# Altium footprint library mva_General.PcbLib: 34 footprints (part 1 of 3)
Each footprint in its own frame and in the unit in brackets; x right, y up, seen from the top. Pads: shape width x height; smd on the part's side, far side on the other; paste and mask are expansions set on the pad; w line width, h text height; cw(c..) or ccw(c..) is an arc to the next point about the centre after c.
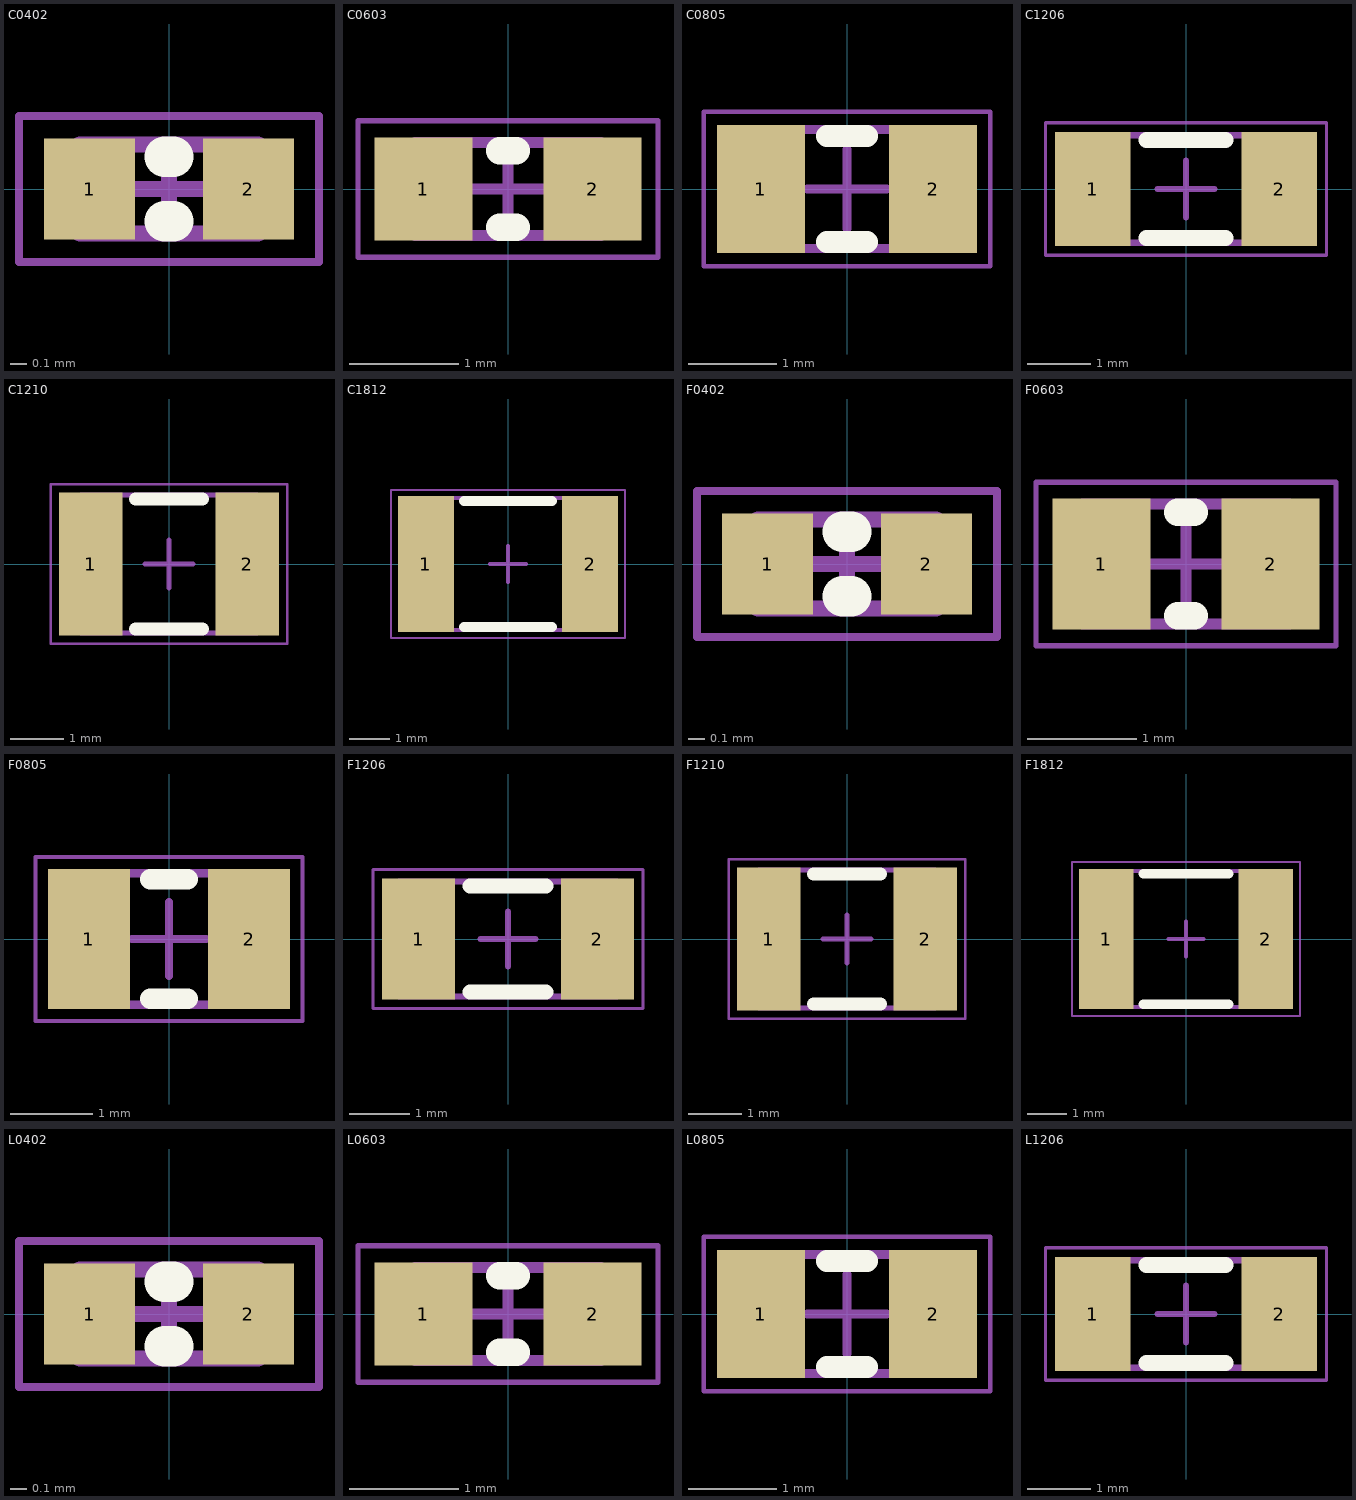
[diagram p0: the footprints below, top view; thin cyan lines are the x and y axes]

## C0402 [mm] "Capacitor SMD 0402."
height 0.9
pads (2):
  rect 0.56x0.62 smd: 1(-0.49,0) 2(0.49,0)
Top Overlay:
  lines w0.25: -0.025,-0.2 0.025,-0.2 ; -0.025,0.2 0.025,0.2
Mechanical 13:
  lines w0.1: -0.55,-0.275 -0.55,0.275 0.55,0.275 0.55,-0.275 -0.55,-0.275
Mechanical 15:
  lines w0.05: -0.925,-0.45 0.925,-0.45 0.925,0.45 -0.925,0.45 -0.925,-0.45
  lines w0.1: -0.225,0 0.225,0 ; 0,-0.2 0,0.2
3D body "C0402_045.step": height 0.45, standoff 0, extent -0.5,-0.25 0.5,0.25

## C0603 [mm] "Capacitor SMD 0603."
height 0.9
pads (2):
  rect 0.9x0.94 smd: 1(-0.775,0) 2(0.775,0)
Top Overlay:
  lines w0.25: -0.075,-0.35 0.075,-0.35 ; -0.075,0.35 0.075,0.35
Mechanical 13:
  lines w0.1: -0.85,-0.425 0.85,-0.425 0.85,0.425 -0.85,0.425 -0.85,-0.425
Mechanical 15:
  lines w0.05: -1.375,-0.625 1.375,-0.625 1.375,0.625 -1.375,0.625 -1.375,-0.625
  lines w0.1: -0.325,0 0.325,0 ; 0,-0.35 0,0.35
3D body "C0603_070.step": height 0.7, standoff 0, extent -0.8,-0.4 0.8,0.4

## C0805 [mm] "Capacitor SMD 0805."
height 0.9
pads (2):
  rect 1x1.45 smd: 1(-0.975,0) 2(0.975,0)
Top Overlay:
  lines w0.25: -0.225,-0.6 0.225,-0.6 ; -0.225,0.6 0.225,0.6
Mechanical 13:
  lines w0.1: -1.05,-0.675 -1.05,0.675 1.05,0.675 1.05,-0.675 -1.05,-0.675
Mechanical 15:
  lines w0.05: -1.625,-0.875 -1.625,0.875 1.625,0.875 1.625,-0.875 -1.625,-0.875
  lines w0.1: -0.45,0 0.45,0 ; 0,-0.45 0,0.45
3D body "C0805_085.step": height 0.85, standoff 0, extent -1,-0.625 1,0.625

## C1206 [mm] "Capacitor SMD 1206."
height 0.9
pads (2):
  rect 1.2x1.8 smd: 1(-1.475,0) 2(1.475,0)
Top Overlay:
  lines w0.25: -0.625,-0.775 0.625,-0.775 ; -0.625,0.775 0.625,0.775
Mechanical 13:
  lines w0.1: -1.65,-0.85 -1.65,0.85 1.65,0.85 1.65,-0.85 -1.65,-0.85
Mechanical 15:
  lines w0.05: -2.225,-1.05 2.225,-1.05 2.225,1.05 -2.225,1.05 -2.225,-1.05
  lines w0.1: -0.45,0 0.45,0 ; 0,-0.45 0,0.45
3D body "C1206_145.step": height 1.45, standoff 0, extent -1.6,-0.8 1.6,0.8

## C1210 [mm] "Capacitor SMD 1210."
height 0.9
pads (2):
  rect 1.2x2.7 smd: 1(-1.475,0) 2(1.475,0)
Top Overlay:
  lines w0.25: -0.625,-1.225 0.625,-1.225 ; -0.625,1.225 0.625,1.225
Mechanical 13:
  lines w0.1: -1.65,-1.3 -1.65,1.3 1.65,1.3 1.65,-1.3 -1.65,-1.3
Mechanical 15:
  lines w0.05: -2.225,-1.5 2.225,-1.5 2.225,1.5 -2.225,1.5 -2.225,-1.5
  lines w0.1: -0.45,0 0.45,0 ; 0,-0.45 0,0.45
3D body "C1210_210.step": height 2.1, standoff 0, extent -1.6,-1.25 1.6,1.25

## C1812 [mm] "Capacitor SMD 1812."
height 0.9
pads (2):
  rect 1.4x3.4 smd: 1(-2.05,0) 2(2.05,0)
Top Overlay:
  lines w0.25: -1.1,-1.575 1.1,-1.575 ; -1.1,1.575 1.1,1.575
Mechanical 13:
  lines w0.1: -2.3,-1.65 2.3,-1.65 2.3,1.65 -2.3,1.65 -2.3,-1.65
Mechanical 15:
  lines w0.05: -2.925,-1.85 -2.925,1.85 2.925,1.85 2.925,-1.85 -2.925,-1.85
  lines w0.1: -0.45,0 0.45,0 ; 0,-0.45 0,0.45
3D body "C1812.stp": height 2.62, standoff 0.02, extent -2.25,-1.6 2.25,1.6

## F0402 [mm] "Fuse SMD 0402."
height 0.9
pads (2):
  rect 0.56x0.62 smd: 1(-0.49,0) 2(0.49,0)
Top Overlay:
  lines w0.25: -0.025,-0.2 0.025,-0.2 ; -0.025,0.2 0.025,0.2
Mechanical 13:
  lines w0.1: -0.55,-0.275 -0.55,0.275 0.55,0.275 0.55,-0.275 -0.55,-0.275
Mechanical 15:
  lines w0.05: -0.925,-0.45 0.925,-0.45 0.925,0.45 -0.925,0.45 -0.925,-0.45
  lines w0.1: -0.225,0 0.225,0 ; 0,-0.2 0,0.2
3D body "R_0402_1005Metric.step": height 0.35, standoff 0, extent -0.5,-0.25 0.5,0.25

## F0603 [mm] "Fuse SMD 0603."
height 0.9
pads (2):
  rect 0.9x1.2 smd: 1(-0.775,0) 2(0.775,0)
Top Overlay:
  lines w0.25: -0.075,-0.475 0.075,-0.475 ; -0.075,0.475 0.075,0.475
Mechanical 13:
  lines w0.1: -0.95,-0.55 -0.95,0.55 0.95,0.55 0.95,-0.55 -0.95,-0.55
Mechanical 15:
  lines w0.05: -1.375,-0.75 -1.375,0.75 1.375,0.75 1.375,-0.75 -1.375,-0.75
  lines w0.1: -0.325,0 0.325,0 ; 0,-0.35 0,0.35
3D body "F0603.step": height 0.45, standoff 0, extent -0.9,-0.52 0.9,0.52

## F0805 [mm] "Fuse SMD 0805."
height 0.9
pads (2):
  rect 1x1.7 smd: 1(-0.975,0) 2(0.975,0)
Top Overlay:
  lines w0.25: -0.225,-0.725 0.225,-0.725 ; -0.225,0.725 0.225,0.725
Mechanical 13:
  lines w0.1: -1.15,-0.8 -1.15,0.8 1.15,0.8 1.15,-0.8 -1.15,-0.8
Mechanical 15:
  lines w0.05: -1.625,-1 -1.625,1 1.625,1 1.625,-1 -1.625,-1
  lines w0.1: -0.45,0 0.45,0 ; 0,-0.45 0,0.45
3D body "F0805.step": height 0.5, standoff 0, extent -1.1,-0.77 1.1,0.77

## F1206 [mm] "Fuse SMD 1206."
height 0.9
pads (2):
  rect 1.2x2 smd: 1(-1.475,0) 2(1.475,0)
Top Overlay:
  lines w0.25: -0.625,-0.875 0.625,-0.875 ; -0.625,0.875 0.625,0.875
Mechanical 13:
  lines w0.1: -1.8,-0.95 -1.8,0.95 1.8,0.95 1.8,-0.95 -1.8,-0.95
Mechanical 15:
  lines w0.05: -2.225,-1.15 2.225,-1.15 2.225,1.15 -2.225,1.15 -2.225,-1.15
  lines w0.1: -0.45,0 0.45,0 ; 0,-0.45 0,0.45
3D body "F1206.step": height 0.5, standoff 0, extent -1.75,-0.92 1.75,0.92

## F1210 [mm] "Fuse SMD 1210."
height 0.9
pads (2):
  rect 1.2x2.7 smd: 1(-1.475,0) 2(1.475,0)
Top Overlay:
  lines w0.25: -0.625,-1.225 0.625,-1.225 ; -0.625,1.225 0.625,1.225
Mechanical 13:
  lines w0.1: -1.65,-1.3 1.65,-1.3 1.65,1.3 -1.65,1.3 -1.65,-1.3
Mechanical 15:
  lines w0.05: -2.225,-1.5 -2.225,1.5 2.225,1.5 2.225,-1.5 -2.225,-1.5
  lines w0.1: -0.45,0 0.45,0 ; 0,-0.45 0,0.45
3D body "F1206.step": height 0.5, standoff 0, extent -1.75,-0.92 1.75,0.92

## F1812 [mm] "Fuse SMD 1812."
height 0.9
pads (2):
  rect 1.4x3.6 smd: 1(-2.05,0) 2(2.05,0)
Top Overlay:
  lines w0.25: -1.1,-1.675 1.1,-1.675 ; -1.1,1.675 1.1,1.675
Mechanical 13:
  lines w0.1: -2.4,-1.75 -2.4,1.75 2.4,1.75 2.4,-1.75 -2.4,-1.75
Mechanical 15:
  lines w0.05: -2.925,-1.975 2.925,-1.975 2.925,1.975 -2.925,1.975 -2.925,-1.975
  lines w0.1: -0.45,0 0.45,0 ; 0,-0.45 0,0.45
3D body "F1812.step": height 1.11, standoff 0, extent -2.35,-1.7 2.35,1.7

## L0402 [mm] "Inductor SMD 0402."
height 0.9
pads (2):
  rect 0.56x0.62 smd: 1(-0.49,0) 2(0.49,0)
Top Overlay:
  lines w0.25: -0.025,-0.2 0.025,-0.2 ; -0.025,0.2 0.025,0.2
Mechanical 13:
  lines w0.1: -0.55,-0.275 -0.55,0.275 0.55,0.275 0.55,-0.275 -0.55,-0.275
Mechanical 15:
  lines w0.05: -0.925,-0.45 0.925,-0.45 0.925,0.45 -0.925,0.45 -0.925,-0.45
  lines w0.1: -0.225,0 0.225,0 ; 0,-0.2 0,0.2
3D body "L0402.stp": height 0.52, standoff 0.01, extent -0.508,-0.254 0.508,0.254

## L0603 [mm] "Inductor SMD 0603."
height 0.9
pads (2):
  rect 0.9x0.94 smd: 1(-0.775,0) 2(0.775,0)
Top Overlay:
  lines w0.25: -0.075,-0.35 0.075,-0.35 ; -0.075,0.35 0.075,0.35
Mechanical 13:
  lines w0.1: -0.85,-0.425 0.85,-0.425 0.85,0.425 -0.85,0.425 -0.85,-0.425
Mechanical 15:
  lines w0.05: -1.375,-0.625 1.375,-0.625 1.375,0.625 -1.375,0.625 -1.375,-0.625
  lines w0.1: -0.325,0 0.325,0 ; 0,-0.35 0,0.35
3D body "L0603.stp": height 0.81, standoff 0.01, extent -0.8,-0.4 0.8,0.4

## L0805 [mm] "Inductor SMD 0805."
height 0.9
pads (2):
  rect 1x1.45 smd: 1(-0.975,0) 2(0.975,0)
Top Overlay:
  lines w0.25: -0.225,-0.6 0.225,-0.6 ; -0.225,0.6 0.225,0.6
Mechanical 13:
  lines w0.1: -1.05,-0.675 -1.05,0.675 1.05,0.675 1.05,-0.675 -1.05,-0.675
Mechanical 15:
  lines w0.05: -1.625,-0.875 -1.625,0.875 1.625,0.875 1.625,-0.875 -1.625,-0.875
  lines w0.1: -0.45,0 0.45,0 ; 0,-0.45 0,0.45
3D body "L0805.stp": height 0.61, standoff 0.01, extent -1,-0.625 1,0.625

## L1206 [mm] "Inductor SMD 1206."
height 0.9
pads (2):
  rect 1.2x1.8 smd: 1(-1.475,0) 2(1.475,0)
Top Overlay:
  lines w0.25: -0.625,-0.775 0.625,-0.775 ; -0.625,0.775 0.625,0.775
Mechanical 13:
  lines w0.1: -1.65,-0.85 1.65,-0.85 1.65,0.85 -1.65,0.85 -1.65,-0.85
Mechanical 15:
  lines w0.05: -2.225,-1.05 -2.225,1.05 2.225,1.05 2.225,-1.05 -2.225,-1.05
  lines w0.1: -0.45,0 0.45,0 ; 0,-0.45 0,0.45
3D body "L1206.stp": height 0.81, standoff 0.01, extent -1.6,-0.8 1.6,0.8